# EAGLE library part 61800925023 (library WE_Stecker)
WR-DSUB Male PCB Connector, 9 Pins=>Code : Con_I-O_DSUB_PCB_Male_61800925023 <http://katalog.we-online.de/media/images/eican/Con_I-O_DSUB_PCB_Male_6180xx25023_pf2.jpg> Details see: http://katalog.we-online.de/en/em/DSUB_MALE_PCB_CONNECTOR_6180XX25023 Created 2014-07-10, Karrer Zheng 2014 (C) Würth Elektronik
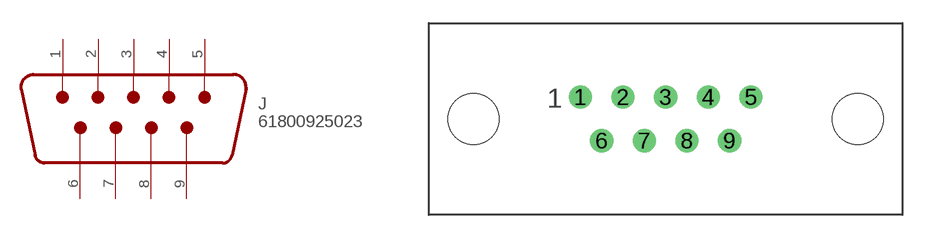
[diagram p0: symbol with the pads of 61800925023; footprint 61800925023]

Designator prefix J

## 61800925023  [61800925023]
1  1
2  2
3  3
4  4
5  5
6  6
7  7
8  8
9  9

## Footprint 61800925023 (pad centres in mm)
WR-DSUB Male PCB Connector, 9 Pins
drill 1: 1 -5.54,1.42; 2 -2.77,1.42; 3 0,1.42; 4 2.77,1.42; 5 5.54,1.42; 6 -4.155,-1.42; 7 -1.385,-1.42; 8 1.385,-1.42; 9 4.155,-1.42
hole 3.3 at -12.495,0
hole 3.3 at 12.495,0